# EAGLE library part IC_TTL_74_00 (library mylib_20130829)
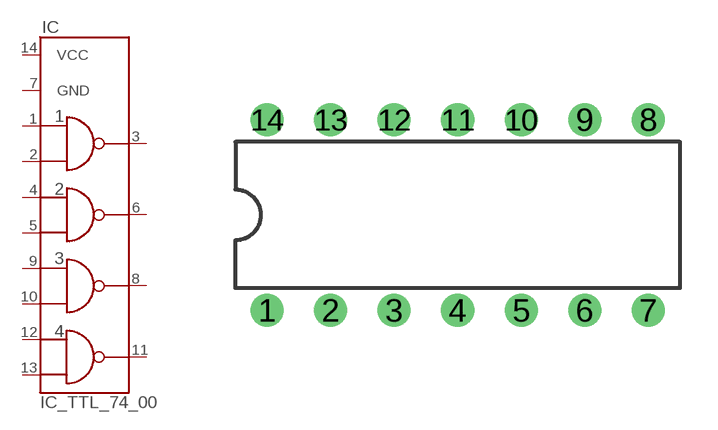
[diagram p86: symbol with the pads of IC_SOCKET_DIL_14; footprint IC_SOCKET_DIL_14]

Designator prefix IC

## IC_TTL_74_00_DIP  [IC_SOCKET_DIL_14]
1  1A  in
2  1B  in
3  1Y  out
4  2A  in
5  2B  in
6  2Y  out
7  GND  pwr
8  3Y  out
9  3A  in
10  3B  in
11  4Y  out
12  4A  in
13  4B  in
14  VCC  pwr

## Footprint IC_SOCKET_DIL_14 (pad centres in mm)
Dual In Line Package
drill 0.813: 1 -7.62,-3.81; 2 -5.08,-3.81; 3 -2.54,-3.81; 4 0,-3.81; 5 2.54,-3.81; 6 5.08,-3.81; 7 7.62,-3.81; 8 7.62,3.81; 9 5.08,3.81; 10 2.54,3.81; 11 0,3.81; 12 -2.54,3.81; 13 -5.08,3.81; 14 -7.62,3.81